# Altium footprint library PcbLib1.PcbLib: 64 footprints (part 1 of 4)
Each footprint in its own frame and in the unit in brackets; x right, y up, seen from the top. Pads: shape width x height; smd on the part's side, far side on the other; paste and mask are expansions set on the pad; w line width, h text height; cw(c..) or ccw(c..) is an arc to the next point about the centre after c.
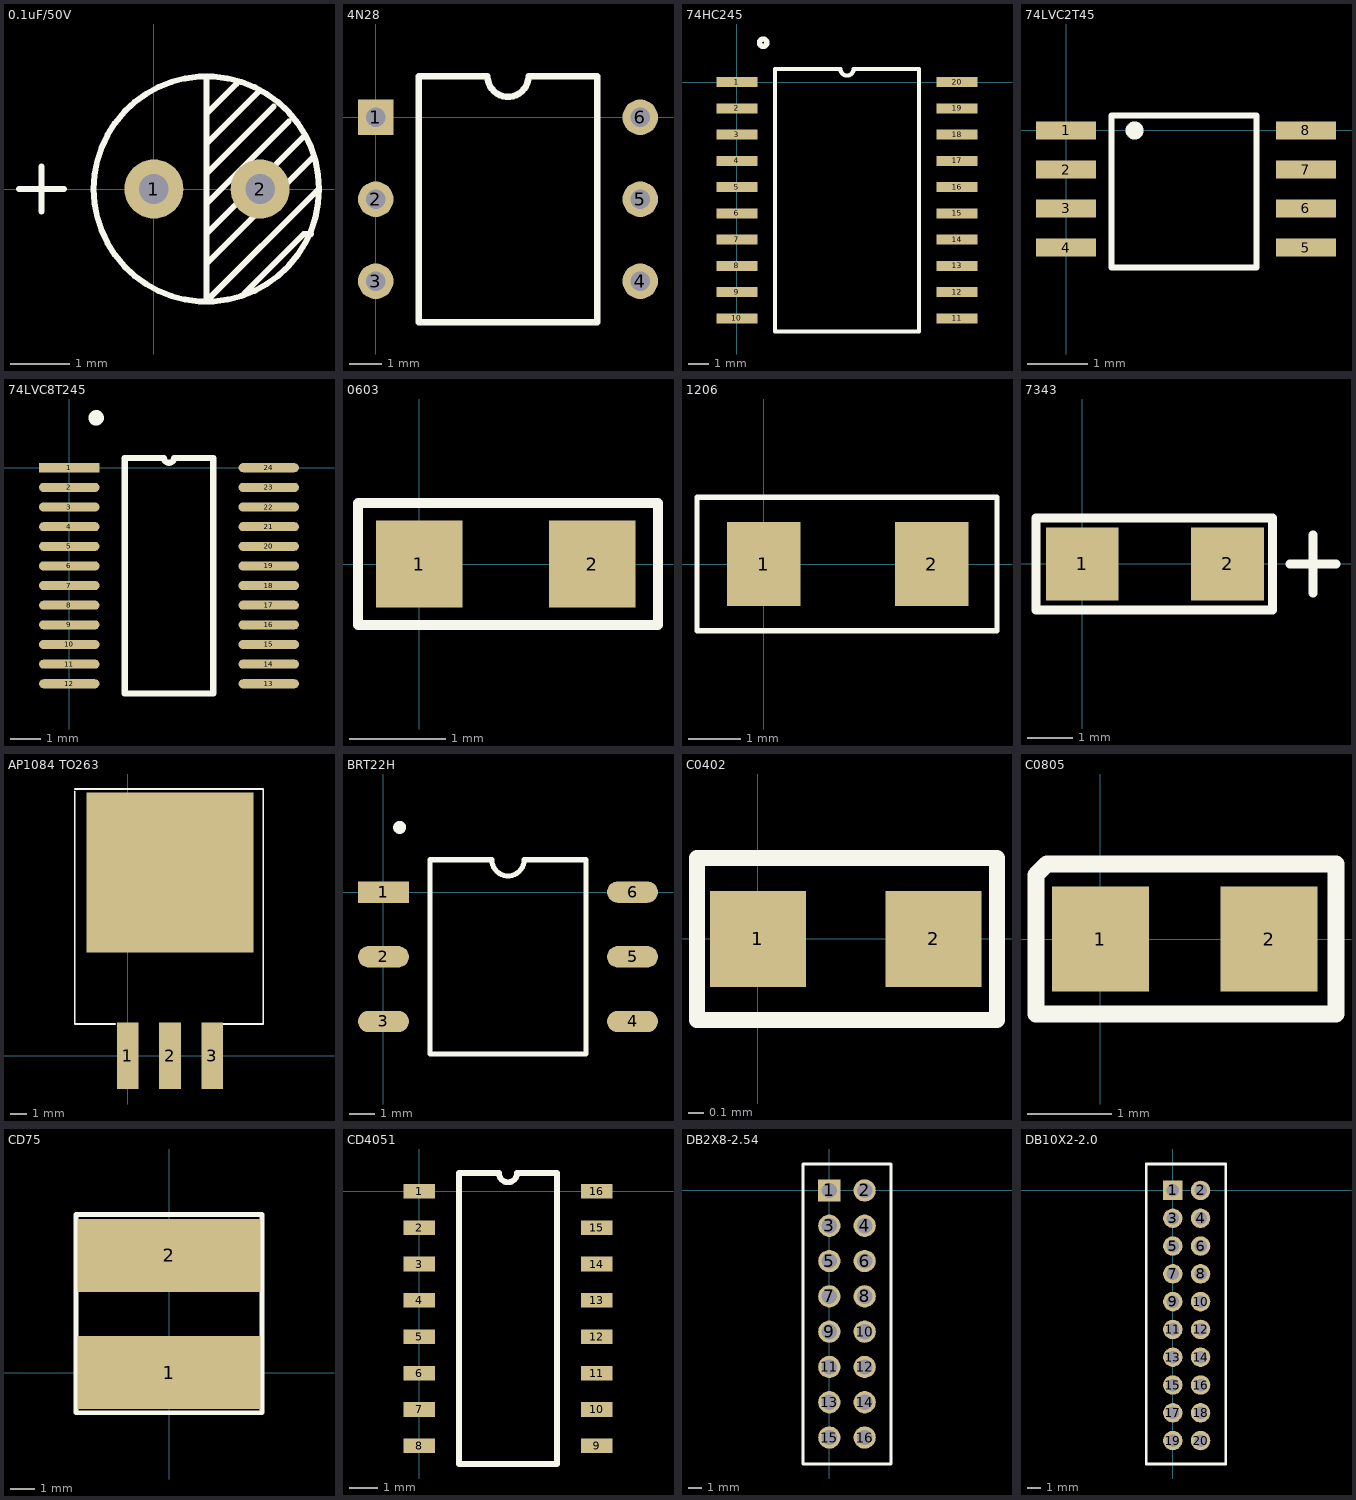
[diagram p0: the footprints below, top view; thin cyan lines are the x and y axes]

## 0.1uF/50V [mm]
pads (2):
  round 1 hole 0.5: 1(0,0) 2(1.8,0)
Top Overlay:
  circle w0.1: c0.889,0 r1.909
  lines w0.1: -2.286,0 -1.524,0 ; -1.905,-0.381 -1.905,0.381 ; 0.889,-1.27 2.667,0.508 ; 0.889,-0.889 0.889,-0.762 2.54,0.889 ; 0.889,-0.254 2.286,1.143 ; 0.889,0.254 2.032,1.397 ; 0.889,0.762 1.778,1.651 ; 0.889,1.27 1.397,1.778 ; 0.889,1.905 0.889,-1.905 2.794,0 2.798,0 ; 1.524,-1.778 2.54,-0.762 2.667,-0.762

## 4N28 [mm]
pads (6):
  rect 1.1x1.1 hole 0.6: 1(0,0)
  round 1.1 hole 0.6: 2(0,-2.54) 3(0,-5.08) 4(8.2,-5.08) 5(8.2,-2.54) 6(8.2,0)
Top Overlay:
  lines w0.2: 1.335,-6.35 6.865,-6.35 6.865,1.27 4.735,1.27 cw(c4.1,1.27) 3.465,1.27 1.335,1.27 1.335,-6.35

## 74HC245 [mm]
pads (20):
  rect 2x0.49 smd: 1(0,0) 2(0,-1.27) 3(0,-2.54) 4(0,-3.81) 5(0,-5.08) 6(0,-6.35) 7(0,-7.62) 8(0,-8.89) 9(0,-10.16) 10(0,-11.43) 11(10.65,-11.43) 12(10.65,-10.16) 13(10.65,-8.89) 14(10.65,-7.62) 15(10.65,-6.35) 16(10.65,-5.08) 17(10.65,-3.81) 18(10.65,-2.54) 19(10.65,-1.27) 20(10.65,0)
Top Overlay:
  circle w0.254: c1.27,1.905 r0.18
  lines w0.2: 1.835,-12.065 8.815,-12.065 8.815,0.635 5.642,0.635 cw(c5.325,0.635) 5.007,0.635 1.835,0.635 1.835,-12.065

## 74LVC2T45 [mm]
pads (8):
  rect 1x0.3 smd: 1(0,0) 2(0,-0.65) 3(0,-1.3) 4(0,-1.95) 5(4,-1.95) 6(4,-1.3) 7(4,-0.65) 8(4,0)
Top Overlay:
  circle w0.2: c1.143,0 r0.05
  lines w0.1: 0.762,-2.286 3.175,-2.286 3.175,0.254 0.762,0.254 0.762,-2.286

## 74LVC8T245 [mm]
pads (24):
  rect 2x0.3 smd: 1(0,0)
  oval 2x0.3 smd: 2(0,-0.65) 3(0,-1.3) 4(0,-1.95) 5(0,-2.6) 6(0,-3.25) 7(0,-3.9) 8(0,-4.55) 9(0,-5.2) 10(0,-5.85) 11(0,-6.5) 12(0,-7.15) 13(6.6,-7.15) 14(6.6,-6.5) 15(6.6,-5.85) 16(6.6,-5.2) 17(6.6,-4.55) 18(6.6,-3.9) 19(6.6,-3.25) 20(6.6,-2.6) 21(6.6,-1.95) 22(6.6,-1.3) 23(6.6,-0.65) 24(6.6,0)
Top Overlay:
  circle w0.254: c0.889,1.651 r0.127
  lines w0.2: 1.835,-7.475 1.835,0.325 3.137,0.325 ccw(c3.3,0.325) 3.462,0.325 4.765,0.325 4.765,-7.475 1.835,-7.475

## 0603 [mm]
pads (2):
  rect 0.9x0.9 smd: 1(0,0) 2(1.8,0)
Top Overlay:
  lines w0.1: -0.635,-0.635 -0.635,0.635 2.486,0.635 2.486,-0.635 -0.635,-0.635

## 1206 [mm]
pads (2):
  rect 1.4x1.6 smd: 1(0,0) 2(3.2,0)
Top Overlay:
  lines w0.1: -1.27,-1.27 4.445,-1.27 4.445,1.27 -1.27,1.27 -1.27,-1.27

## 7343 [mm]
pads (2):
  rect 1.6x1.6 smd: 1(0,0) 2(3.2,0)
Top Overlay:
  lines w0.2: 4.572,0 4.953,0 5.588,0 ; 5.08,-0.635 5.08,0.635 ; -1.016,-1.016 4.191,-1.016 4.191,1.016 -1.016,1.016 -1.016,-1.016

## AP1084 TO263 [mm]
pads (4):
  rect 1.3x4 smd: 1(0,0) 2(2.54,0) 3(5.08,0)
  rect 10x9.6 smd: ""(2.54,11)
Top Overlay:
  lines w0.1: -3.175,15.875 -3.175,1.905 -0.762,1.905 ; -3.175,16.002 8.128,16.002 8.128,1.905 5.715,1.905

## BRT22H [mm]
pads (6):
  rect 2x0.84 smd: 1(0,0)
  oval 2x0.84 smd: 2(0,-2.54) 3(0,-5.08) 4(9.78,-5.08) 5(9.78,-2.54) 6(9.78,0)
Top Overlay:
  circle w0.254: c0.635,2.54 r0.127
  lines w0.2: 1.835,-6.35 7.945,-6.35 7.945,1.27 5.525,1.27 cw(c4.89,1.27) 4.255,1.27 1.835,1.27 1.835,-6.35

## C0402 [mm]
pads (2):
  rect 0.6x0.6 smd: 1(0,0) 2(1.1,0)
Top Overlay:
  lines w0.1: -0.381,-0.508 -0.381,0.508 1.497,0.508 1.497,-0.508 -0.381,-0.508

## C0805 [mm]
pads (2):
  rect 1.15x1.25 smd: 1(0,0) 2(2,0)
Top Overlay:
  lines w0.2: -0.762,-0.889 2.794,-0.889 2.794,0.889 -0.635,0.889 -0.762,0.762 -0.762,-0.889

## CD75 [mm]
pads (2):
  rect 7.5x3 smd: 1(0,0) 2(0,4.8)
Top Overlay:
  lines w0.2: -3.81,-1.651 -3.81,1.524 -3.81,3.175 -3.81,6.477 3.81,6.477 3.81,3.175 3.81,1.524 3.81,-1.651 -3.81,-1.651

## CD4051 [mm]
pads (16):
  rect 1.1x0.51 smd: 1(0,0) 2(0,-1.27) 3(0,-2.54) 4(0,-3.81) 5(0,-5.08) 6(0,-6.35) 7(0,-7.62) 8(0,-8.89) 9(6.2,-8.89) 10(6.2,-7.62) 11(6.2,-6.35) 12(6.2,-5.08) 13(6.2,-3.81) 14(6.2,-2.54) 15(6.2,-1.27) 16(6.2,0)
Top Overlay:
  lines w0.2: 1.385,-9.525 1.385,0.635 2.782,0.635 ccw(c3.1,0.635) 3.417,0.635 4.815,0.635 4.815,-9.525 1.385,-9.525

## DB2X8-2.54 [mm]
pads (16):
  rect 1.6x1.6 hole 1.1: 1(0,0)
  round 1.6 hole 1.1: 2(2.54,0) 3(0,-2.54) 4(2.54,-2.54) 5(0,-5.08) 6(2.54,-5.08) 7(0,-7.62) 8(2.54,-7.62) 9(0,-10.16) 10(2.54,-10.16) 11(0,-12.7) 12(2.54,-12.7) 13(0,-15.24) 14(2.54,-15.24) 15(0,-17.78) 16(2.54,-17.78)
Top Overlay:
  lines w0.2: -1.905,-19.685 4.445,-19.685 4.445,1.905 -1.905,1.905 -1.905,-19.685

## DB10X2-2.0 [mm]
pads (20):
  rect 1.4x1.4 hole 0.9: 1(0,0)
  round 1.4 hole 0.9: 2(2,0) 3(0,-2) 4(2,-2) 5(0,-4) 6(2,-4) 7(0,-6) 8(2,-6) 9(0,-8) 10(2,-8) 11(0,-10) 12(2,-10) 13(0,-12) 14(2,-12) 15(0,-14) 16(2,-14) 17(0,-16) 18(2,-16) 19(0,-18) 20(2,-18)
Top Overlay:
  lines w0.2: -1.905,-19.685 3.81,-19.685 3.81,1.905 -1.905,1.905 -1.905,-19.685